# EAGLE library part ADS61* (library IC_Data-Conversion)
14/12-Bit, 250/210 MSPS ADCs With DDR LVDS and Parallel CMOS Outputs Datasheet <http://www.ti.com/lit/ds/symlink/ads6149.pdf>
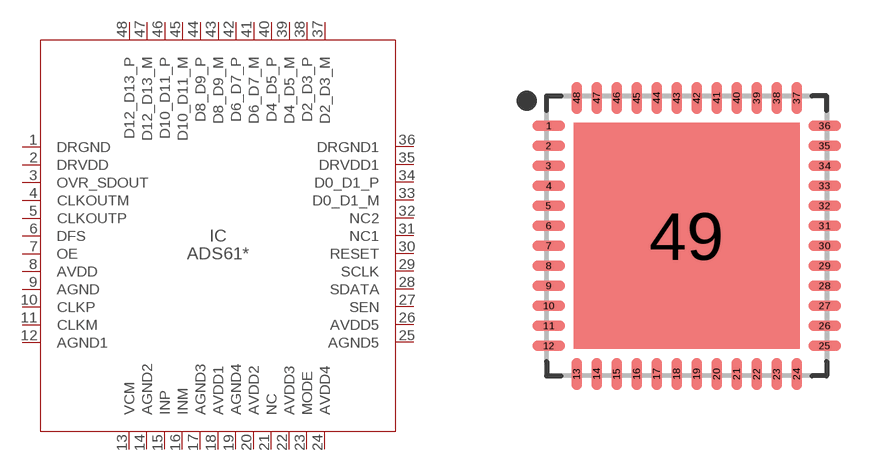
[diagram p6: symbol with the pads of QFN50P700X700X100-49T565; footprint QFN50P700X700X100-49T565]

Designator prefix IC

## ADS6128_VQFN (BITS: 12; CATEGORY: IC_Data-Conversion; DESCRIPTION: IC ADC 12BIT PIPELINED 48VQFN; MANUFACTURER: Texas Instruments; MPN: ADS6128IRGZT; OPERATING_TEMP: -40 to +85°C; PART_STATUS: Active; ROHS_COMPLIANT: RoHS3 Compliant; SERIES: ADS612x; SUB_CATEGORY: A/D Converter; THERMAL_LOSS: 687 mW; VALUE: ADS6128), ADS6129_VQFN (BITS: 12; CATEGORY: IC_Data-Conversion; DESCRIPTION: IC ADC 12BIT PIPELINED 48VQFN; MANUFACTURER: Texas Instruments; MPN: ADS6129IRGZT; OPERATING_TEMP: -40 to +85°C; PART_STATUS: Active; ROHS_COMPLIANT: RoHS3 Compliant; SERIES: ADS612x; SUB_CATEGORY: A/D Converter; THERMAL_LOSS: 687 mW; VALUE: ADS6129), ADS6148_VQFN (BITS: 14; CATEGORY: IC_Data-Conversion; DESCRIPTION: IC ADC 14BIT PIPELINED 48VQFN; MANUFACTURER: Texas Instruments; MPN: ADS6148IRGZT; OPERATING_TEMP: -40 to +85°C; PART_STATUS: Active; ROHS_COMPLIANT: RoHS3 Compliant; SERIES: ADS614x; SUB_CATEGORY: A/D Converter; THERMAL_LOSS: 687 mW; VALUE: ADS6148), ADS6149_VQFN (BITS: 14; CATEGORY: IC_Data-Conversion; DESCRIPTION: IC ADC 14BIT PIPELINED 48VQFN; MANUFACTURER: Texas Instruments; MPN: ADS6149IRGZT; OPERATING_TEMP: -40 to +85°C; PART_STATUS: Active; ROHS_COMPLIANT: RoHS3 Compliant; SERIES: ADS614x; SUB_CATEGORY: A/D Converter; THERMAL_LOSS: 687 mW; VALUE: ADS6149)  [QFN50P700X700X100-49T565]
1  DRGND  pwr
2  DRVDD  pwr
3  OVR_SDOUT  out
4  CLKOUTM  out
5  CLKOUTP  in
6  DFS  in
7  OE  in
8  AVDD  pwr
9  AGND
10  CLKP  in
11  CLKM  in
12  AGND1  pwr
13  VCM
14  AGND2  pwr
15  INP  in
16  INM  in
17  AGND3  pwr
18  AVDD1  pwr
19  AGND4  pwr
20  AVDD2  pwr
21  NC  nc
22  AVDD3  pwr
23  MODE  in
24  AVDD4  pwr
25  AGND5  pwr
26  AVDD5  pwr
27  SEN  in
28  SDATA  in
29  SCLK  in
30  RESET  in
31  NC1  nc
32  NC2  nc
33  D0_D1_M  out
34  D0_D1_P  out
35  DRVDD1  pwr
36  DRGND1  pwr
37  D2_D3_M  out
38  D2_D3_P  out
39  D4_D5_M  out
40  D4_D5_P  out
41  D6_D7_M  out
42  D6_D7_P  out
43  D8_D9_M  out
44  D8_D9_P  out
45  D10_D11_M  out
46  D10_D11_P  out
47  D12_D13_M  out
48  D12_D13_P  out

## Footprint QFN50P700X700X100-49T565 (pad centres in mm)
48-QFN, 0.50 mm pitch, 7.00 X 7.00 X 1.00 mm body, 5.65 X 5.65 mm thermal pad 48-pin QFN package with 0.50 mm pitch with body size 7.00 X 7.00 X 1.00 mm and thermal pad size 5.65 X 5.65 mm
smd 0.811 x 0.264: 1 -3.451,2.75; 2 -3.451,2.25; 3 -3.451,1.75; 4 -3.451,1.25; 5 -3.451,0.75; 6 -3.451,0.25; 7 -3.451,-0.25; 8 -3.451,-0.75; 9 -3.451,-1.25; 10 -3.451,-1.75; 11 -3.451,-2.25; 12 -3.451,-2.75; 25 3.451,-2.75; 26 3.451,-2.25; 27 3.451,-1.75; 28 3.451,-1.25; 29 3.451,-0.75; 30 3.451,-0.25; 31 3.451,0.25; 32 3.451,0.75; 33 3.451,1.25; 34 3.451,1.75; 35 3.451,2.25; 36 3.451,2.75
smd 0.264 x 0.811: 13 -2.75,-3.451; 14 -2.25,-3.451; 15 -1.75,-3.451; 16 -1.25,-3.451; 17 -0.75,-3.451; 18 -0.25,-3.451; 19 0.25,-3.451; 20 0.75,-3.451; 21 1.25,-3.451; 22 1.75,-3.451; 23 2.25,-3.451; 24 2.75,-3.451; 37 2.75,3.451; 38 2.25,3.451; 39 1.75,3.451; 40 1.25,3.451; 41 0.75,3.451; 42 0.25,3.451; 43 -0.25,3.451; 44 -0.75,3.451; 45 -1.25,3.451; 46 -1.75,3.451; 47 -2.25,3.451; 48 -2.75,3.451
smd 5.65 x 5.65: 49 0,0